# EAGLE library part ESP32-S3 (library ESP32-S3)
Check availability <https://pricing.snapeda.com/parts/ESP32-S3/Espressif%20Systems/view-part?ref=eda>
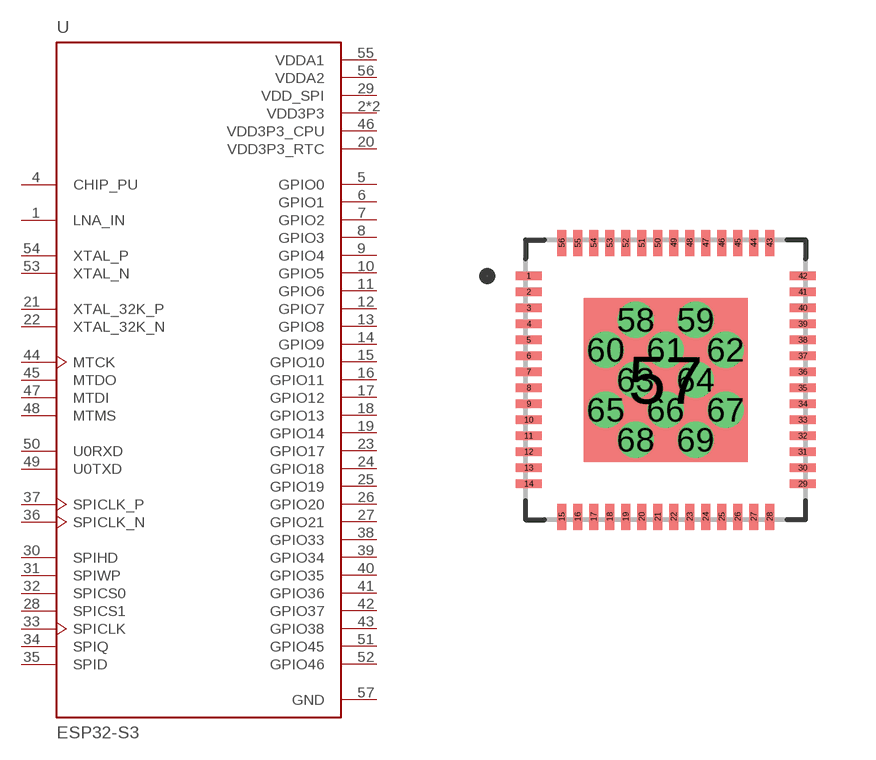
[diagram p0: symbol with the pads of IC_ESP32-S3; footprint IC_ESP32-S3]

Designator prefix U

## ESP32-S3 (Availability: In Stock; Check_prices: https://www.snapeda.com/parts/ESP32-S3/Espressif+Systems/view-part/?ref=eda; Description: IC RF TxRx + MCU Bluetooth, WiFi 802.11b/g/n, Bluetooth v5.0 2.412GHz ~ 2.484GHz 56-VFQFN Exposed Pad; MF: Espressif Systems; MP: ESP32-S3; Package: None; Price: None; SnapEDA_Link: https://www.snapeda.com/parts/ESP32-S3/Espressif+Systems/view-part/?ref=snap)  [IC_ESP32-S3]
1  LNA_IN
2  VDD3P3  pwr
3  VDD3P3  pwr
4  CHIP_PU  in
5  GPIO0
6  GPIO1
7  GPIO2
8  GPIO3
9  GPIO4
10  GPIO5
11  GPIO6
12  GPIO7
13  GPIO8
14  GPIO9
15  GPIO10
16  GPIO11
17  GPIO12
18  GPIO13
19  GPIO14
20  VDD3P3_RTC  pwr
21  XTAL_32K_P
22  XTAL_32K_N
23  GPIO17
24  GPIO18
25  GPIO19
26  GPIO20
27  GPIO21
28  SPICS1
29  VDD_SPI  pwr
30  SPIHD
31  SPIWP
32  SPICS0
33  SPICLK
34  SPIQ
35  SPID
36  SPICLK_N
37  SPICLK_P
38  GPIO33
39  GPIO34
40  GPIO35
41  GPIO36
42  GPIO37
43  GPIO38
44  MTCK
45  MTDO
46  VDD3P3_CPU  pwr
47  MTDI
48  MTMS
49  U0TXD
50  U0RXD
51  GPIO45
52  GPIO46
53  XTAL_N  out
54  XTAL_P  in
55  VDDA1  pwr
56  VDDA2  pwr
57  GND  pwr

## Footprint IC_ESP32-S3 (pad centres in mm)
smd 0.65 x 0.22: 1 -3.425,2.6; 2 -3.425,2.2; 3 -3.425,1.8; 4 -3.425,1.4; 5 -3.425,1; 6 -3.425,0.6; 7 -3.425,0.2; 8 -3.425,-0.2; 9 -3.425,-0.6; 10 -3.425,-1; 11 -3.425,-1.4; 12 -3.425,-1.8; 13 -3.425,-2.2; 14 -3.425,-2.6; 29 3.425,-2.6; 30 3.425,-2.2; 31 3.425,-1.8; 32 3.425,-1.4; 33 3.425,-1; 34 3.425,-0.6; 35 3.425,-0.2; 36 3.425,0.2; 37 3.425,0.6; 38 3.425,1; 39 3.425,1.4; 40 3.425,1.8; 41 3.425,2.2; 42 3.425,2.6
smd 0.22 x 0.65: 15 -2.6,-3.425; 16 -2.2,-3.425; 17 -1.8,-3.425; 18 -1.4,-3.425; 19 -1,-3.425; 20 -0.6,-3.425; 21 -0.2,-3.425; 22 0.2,-3.425; 23 0.6,-3.425; 24 1,-3.425; 25 1.4,-3.425; 26 1.8,-3.425; 27 2.2,-3.425; 28 2.6,-3.425; 43 2.6,3.425; 44 2.2,3.425; 45 1.8,3.425; 46 1.4,3.425; 47 1,3.425; 48 0.6,3.425; 49 0.2,3.425; 50 -0.2,3.425; 51 -0.6,3.425; 52 -1,3.425; 53 -1.4,3.425; 54 -1.8,3.425; 55 -2.2,3.425; 56 -2.6,3.425
smd 4.1 x 4.1: 57 0,0
drill 0.4 pad 0.5: 58 -0.75,1.5; 59 0.75,1.5; 60 -1.5,0.75; 61 0,0.75; 62 1.5,0.75; 63 -0.75,0; 64 0.75,0; 65 -1.5,-0.75; 66 0,-0.75; 67 1.5,-0.75; 68 -0.75,-1.5; 69 0.75,-1.5